# Altium schematic symbol library SCH - SWITCH - NKK SS312.SCHLIB: 1 symbol
Pins are listed as number, name and electrical type; pins without a type are passive.

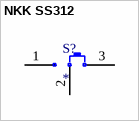
[diagram p0: symbol NKK SS312]

## NKK SS312
designator S?
pins: 1, 2 COM, 3